# EAGLE library part MAX14661ETI+ (library maxorig)
MAX14661 - I2C / SPI mux, 2 to 16 Great for audio routing, with low resistance and dual busses. Each normally open pin can be tied to either, both, or none of the shared busses. I2C mode has 2 address pins for a total of 4 possible addresses. Technical specifactions: Signal range: -5.5 to +5.5 V VCC: 1.6-5.5V 12ohm on-resistance
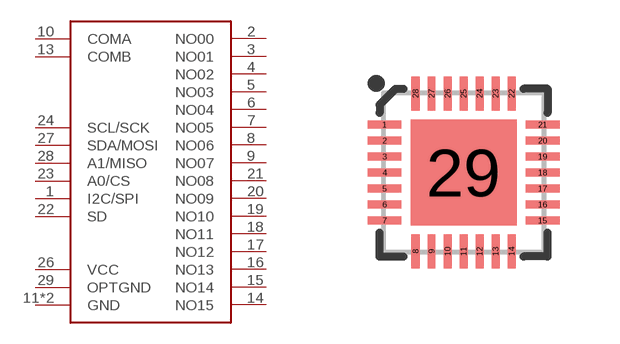
[diagram p17: symbol with the pads of QFN28_4X4; footprint QFN28_4X4]

Designator prefix -

## MAX14661ETI+QFN  [QFN28_4X4]
1  I2C/SPI
2  NO00
3  NO01
4  NO02
5  NO03
6  NO04
7  NO05
8  NO06
9  NO07
10  COMA
11  GND
13  COMB
14  NO15
15  NO14
16  NO13
17  NO12
18  NO11
19  NO10
20  NO09
21  NO08
22  SD
23  A0/CS
24  SCL/SCK
25  GND
26  VCC
27  SDA/MOSI
28  A1/MISO
29  OPTGND

## Footprint QFN28_4X4 (pad centres in mm)
smd 0.85 x 0.2: 1 -1.975,1.2; 2 -1.975,0.8; 3 -1.975,0.4; 4 -1.975,0; 5 -1.975,-0.4; 6 -1.975,-0.8; 7 -1.975,-1.2; 15 1.975,-1.2; 16 1.975,-0.8; 17 1.975,-0.4; 18 1.975,0; 19 1.975,0.4; 20 1.975,0.8; 21 1.975,1.2
smd 0.2 x 0.85: 8 -1.2,-1.975; 9 -0.8,-1.975; 10 -0.4,-1.975; 11 0,-1.975; 12 0.4,-1.975; 13 0.8,-1.975; 14 1.2,-1.975; 22 1.2,1.975; 23 0.8,1.975; 24 0.4,1.975; 25 0,1.975; 26 -0.4,1.975; 27 -0.8,1.975; 28 -1.2,1.975
smd 2.65 x 2.65: 29 0,0